# Altium schematic symbol library ADV7611.SchLib: 2 symbols
Pins are listed as number, name and electrical type; pins without a type are passive.

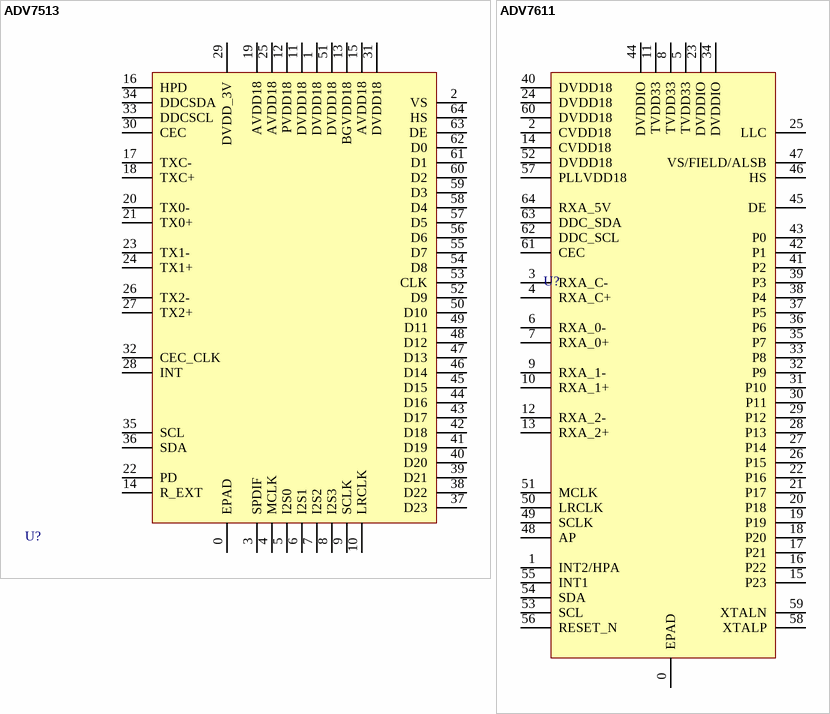
[diagram p0: symbols ADV7513 to ADV7611]

## ADV7513
designator U?  (value not drawn)
footprint ADV7611 (Thin QFP, 64-Leads, Body 10x10mm, Pitch 0.5mm, IPC High Density)
pins: 0 EPAD, 1 DVDD18, 2 VS, 3 SPDIF, 4 MCLK, 5 I2S0, 6 I2S1, 7 I2S2, 8 I2S3, 9 SCLK, 10 LRCLK, 11 DVDD18, 12 PVDD18, 13 BGVDD18, 14 R_EXT, 15 AVDD18, 16 HPD, 17 TXC-, 18 TXC+, 19 AVDD18, 20 TX0-, 21 TX0+, 22 PD, 23 TX1-, 24 TX1+, 25 AVDD18, 26 TX2-, 27 TX2+, 28 INT, 29 DVDD_3V, 30 CEC, 31 DVDD18, 32 CEC_CLK, 33 DDCSCL, 34 DDCSDA, 35 SCL, 36 SDA, 37 D23, 38 D22, 39 D21, 40 D20, 41 D19, 42 D18, 43 D17, 44 D16, 45 D15, 46 D14, 47 D13, 48 D12, 49 D11, 50 D10, 51 DVDD18, 52 D9, 53 CLK, 54 D8, 55 D7, 56 D6, 57 D5, 58 D4, 59 D3, 60 D2, 61 D1, 62 D0, 63 DE, 64 HS

## ADV7611
designator U?  (value not drawn)
footprint ADV7611 (Thin QFP, 64-Leads, Body 10x10mm, Pitch 0.5mm, IPC High Density)
pins: 0 EPAD, 1 INT2/HPA, 2 CVDD18, 3 RXA_C-, 4 RXA_C+, 5 TVDD33, 6 RXA_0-, 7 RXA_0+, 8 TVDD33, 9 RXA_1-, 10 RXA_1+, 11 TVDD33, 12 RXA_2-, 13 RXA_2+, 14 CVDD18, 15 P23, 16 P22, 17 P21, 18 P20, 19 P19, 20 P18, 21 P17, 22 P16, 23 DVDDIO, 24 DVDD18, 25 LLC, 26 P15, 27 P14, 28 P13, 29 P12, 30 P11, 31 P10, 32 P9, 33 P8, 34 DVDDIO, 35 P7, 36 P6, 37 P5, 38 P4, 39 P3, 40 DVDD18, 41 P2, 42 P1, 43 P0, 44 DVDDIO, 45 DE, 46 HS, 47 VS/FIELD/ALSB, 48 AP, 49 SCLK, 50 LRCLK, 51 MCLK, 52 DVDD18, 53 SCL, 54 SDA, 55 INT1, 56 RESET_N, 57 PLLVDD18, 58 XTALP, 59 XTALN, 60 DVDD18, 61 CEC, 62 DDC_SCL, 63 DDC_SDA, 64 RXA_5V